# Altium footprint library Calisma.PcbLib: 17 footprints (part 2 of 2)
Each footprint in its own frame and in the unit in brackets; x right, y up, seen from the top. Pads: shape width x height; smd on the part's side, far side on the other; paste and mask are expansions set on the pad; w line width, h text height; cw(c..) or ccw(c..) is an arc to the next point about the centre after c.
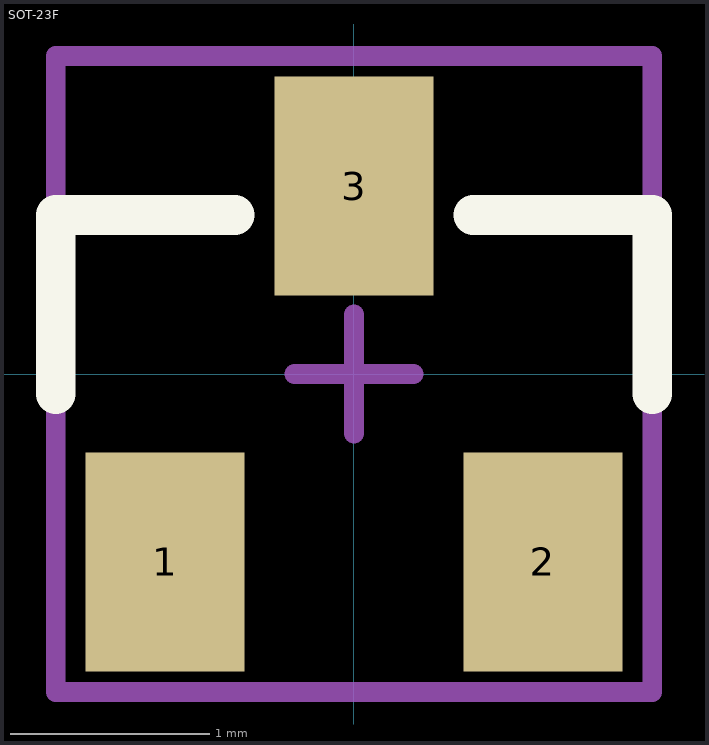
[diagram p1: the footprint, top view; thin cyan lines are the x and y axes]

## SOT-23F [mm]
pads (3):
  rect 0.8x1.1 smd mask+0.05: 1(-0.95,-0.945) 2(0.95,-0.945) 3(0,0.945)
Top Overlay:
  lines w0.2: -1.5,-0.1 -1.5,0.8 -0.6,0.8 ; 0.6,0.8 1.5,0.8 1.5,-0.1
Top Component Center:
  lines w0.1: -0.3,0 0.3,0 ; 0,-0.3 0,0.3 ; -1.5,-1.6 -1.5,1.6 1.5,1.6 1.5,-1.6 -1.5,-1.6
Top Designator:
  lines w0.1: -1.5,-1.6 -1.5,1.6 1.5,1.6 1.5,-1.6 -1.5,-1.6
  text "'.Designator'" at -1.2,-0.467 h1
3D body "SOT23-3.stp": height 1.2, standoff 0.02, extent -1.5,-1.418 1.5,1.418